# Altium footprint library default.PcbLib: 40 footprints (part 3 of 3)
Each footprint in its own frame and in the unit in brackets; x right, y up, seen from the top. Pads: shape width x height; smd on the part's side, far side on the other; paste and mask are expansions set on the pad; w line width, h text height; cw(c..) or ccw(c..) is an arc to the next point about the centre after c.
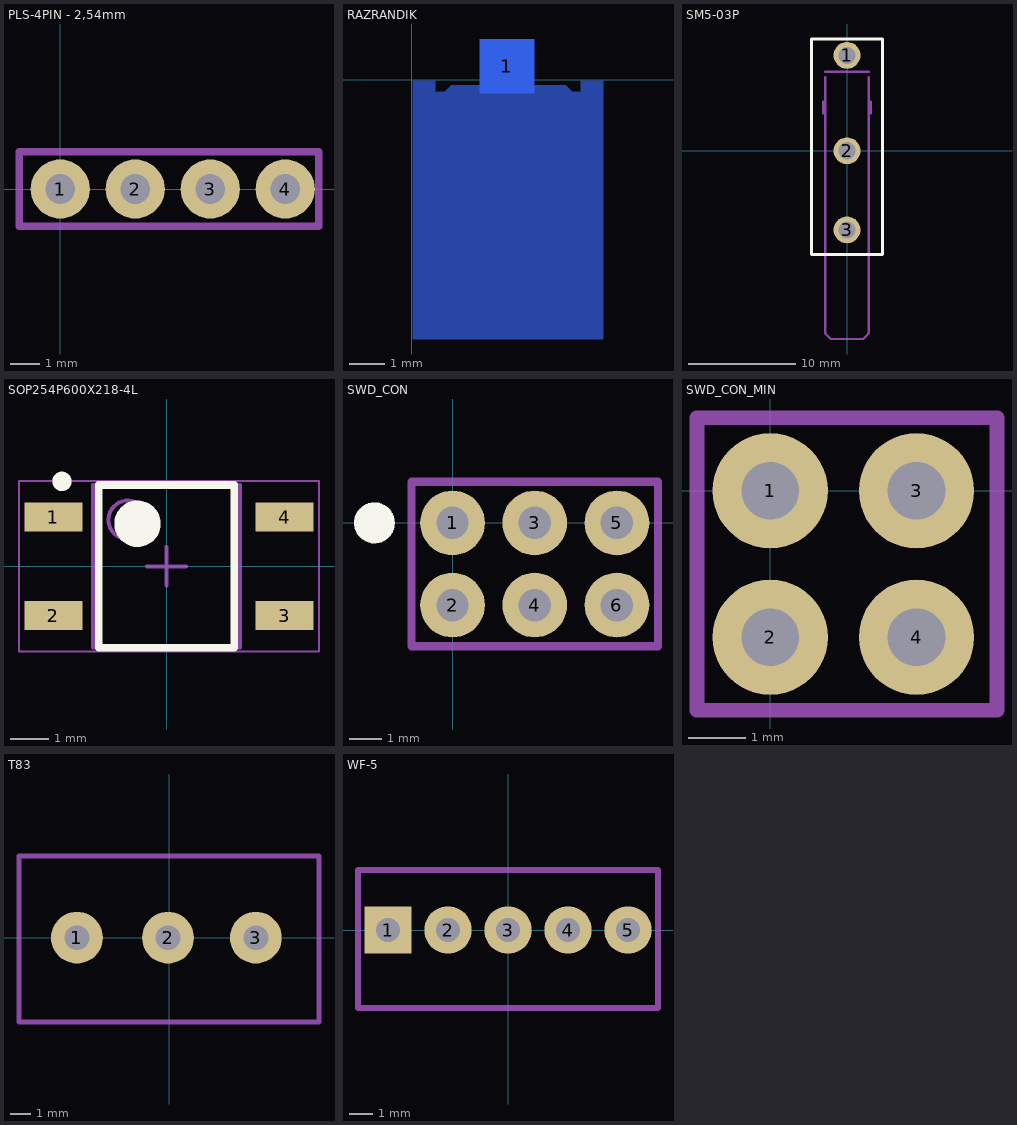
[diagram p2: the footprints below, top view; thin cyan lines are the x and y axes]

## PLS-4PIN - 2,54mm [mm]
pads (4):
  round 2 hole 1: 1(0,0) 2(2.54,0) 3(5.08,0) 4(7.62,0)
Top Courtyard:
  lines w0.254: -1.397,-1.27 8.763,-1.27 8.763,1.27 -1.397,1.27 -1.397,-1.27
3D body "21690.stp": height 7.2, standoff -2.8, extent -1.27,-1.27 8.89,1.27

## RAZRANDIK [mil]
pads (1):
  rect 60x60 smd far side: 1(105,15)
Bottom Layer:
  region: 61.19,-112.1 41.19,-132.1 41.19,-242.1 61.19,-222.1 81.19,-242.1 106.19,-217.1 131.19,-242.1 151.19,-222.1 171.19,-242.1 171.19,-132.1 151.19,-112.1
  region: 16.19,-285.76 211.19,-285.76 211.19,-0.76 186.19,-0.76 186.19,-250.76 26.19,-250.76 26.19,-0.76 1.19,-0.76 1.19,-285.76
  pour cut-out: 196.19,-253.71 196.19,-18.21 191.19,-13.21 21.19,-13.21 16.19,-18.21 16.19,-253.71
  region: 98.75,-112.1 114.5,-112.1 114.5,-104.22 169.62,-104.22 177.5,-96.35 169.62,-88.48 161.75,-88.48 161.75,-76.67 169.62,-76.67 177.5,-68.79 169.62,-60.92 67.26,-60.92 67.26,-49.11 169.62,-49.11 177.5,-41.23 169.62,-33.36 161.75,-33.36 161.75,-21.55 169.62,-21.55 177.5,-13.67 169.62,-5.8 43.64,-5.8 35.76,-13.67 43.64,-21.55 146,-21.55 146,-33.36 43.64,-33.36 35.76,-41.23 43.64,-49.11 51.51,-49.11 51.51,-60.92 43.64,-60.92 35.76,-68.79 43.64,-76.67 146,-76.67 146,-88.48 43.64,-88.48 35.76,-96.35 43.64,-104.22 98.75,-104.22
Top Solder:
  region: 181.19,-262.1 186.19,-257.1 186.19,-237.1 181.19,-232.1 31.19,-232.1 26.19,-237.1 26.19,-257.1 31.19,-262.1
  region: 166.19,-107.1 171.19,-112.1 201.19,-112.1 206.19,-107.1 206.19,-7.1 201.19,-2.1 171.19,-2.1 166.19,-7.1
  region: 6.19,-107.1 11.19,-112.1 41.19,-112.1 46.19,-107.1 46.19,-7.1 41.19,-2.1 11.19,-2.1 6.19,-7.1

## SM5-03P [mm]
pads (3):
  round 2.5 hole 1.6: 1(0,8.89) 2(0,0) 3(0,-7.366)
Top Overlay:
  lines w0.254: -3.302,-9.652 3.302,-9.652 3.302,10.414 -3.302,10.414 -3.302,-9.652
Top Assembly:
  lines w0.2: -2.042,-9.652 -3.302,-9.652 -3.302,10.414 3.302,10.414 3.302,-9.652 2.042,-9.652 ; -2.032,3.471 -2.25,3.471 -2.25,4.596 -2.032,4.596 ; -2.032,6.858 -2.032,-17.018 -1.524,-17.526 1.524,-17.526 2.032,-17.018 2.032,6.858 ; -2.032,7.366 2.032,7.366 ; 2.032,3.471 2.25,3.471 2.25,4.596 2.032,4.596
Top Courtyard:
  lines w0.05: -3.302,-9.652 3.302,-9.652 3.302,10.414 -3.302,10.414 -3.302,-9.652
  lines w0.1: -0.5,0.508 0.5,0.508 ; 0,0.008 0,1.008
Top Designator:
  text ".Designator" at -3.499,2.775 h0.7
3D body: height 0, standoff 0, extent -0.595,8.291 0.6,9.489
3D body: height 0, standoff 0, extent -0.595,-7.965 0.6,-6.767
3D body: height 0, standoff 0, extent -0.595,-0.599 0.6,0.599
3D body: height 11, standoff 10.1, extent -2.032,-17.526 2.032,6.858
3D body: height 10, standoff 0.25, extent -3.3,-9.642 3.3,10.408
3D body: height 10.1, standoff 10, extent -2.25,3.471 2.25,4.596
3D body: height 10.1, standoff 10, extent -2.042,6.308 2.032,7.366

## SOP254P600X218-4L [mm] "SOP, 4-Leads, Body 4,00x3,75mm, Pitch 2,54mm, IPC High Density"
height 2.18
pads (4):
  rect 1.5x0.75 smd: 1(-2.921,1.27) 2(-2.921,-1.27) 3(3.048,-1.27) 4(3.048,1.27)
Top Overlay:
  circle w0.6: c-0.75,1.1 r0.3
  circle w0.25: c-2.7,2.195 r0.125
  lines w0.2: -1.75,-2.1 1.75,-2.1 1.75,2.1 -1.75,2.1 -1.75,-2.1
Mechanical 13:
  circle w0.1: c-1,1.2 r0.5
  lines w0.1: -1.9,-2.1 1.9,-2.1 1.9,2.1 -1.9,2.1 -1.9,-2.1
Mechanical 15:
  lines w0.05: -3.81,-2.2 -3.81,2.2 3.937,2.2 3.937,-2.2 -3.81,-2.2
  lines w0.1: -0.5,0 0.5,0 ; 0,-0.5 0,0.5
3D body "20584.stp": height 2, standoff -0.1, extent -3.429,-1.995 3.571,1.905

## SWD_CON [mm]
pads (6):
  round 2 hole 1: 1(0,0) 2(0,-2.54) 3(2.54,0) 4(2.54,-2.54) 5(5.08,0) 6(5.08,-2.54)
Top Overlay:
  circle w0.254: c-2.413,0 r0.508
  rectangle: -2.845,-0.406 -2.007,0.406
Top Courtyard:
  lines w0.254: -1.27,-3.81 -1.27,1.27 6.35,1.27 6.35,-3.81 -1.27,-3.81
3D body "User Library-PLS-2.STEP": height 8.54, standoff -3, extent 3.81,-3.81 6.35,1.27
3D body "User Library-PLS-2.STEP": height 8.54, standoff -3, extent 1.27,-3.81 3.81,1.27
3D body "User Library-PLS-2.STEP": height 8.54, standoff -3, extent -1.27,-3.81 1.27,1.27

## SWD_CON_MIN [mm]
pads (4):
  round 2 hole 1: 1(0,0) 2(0,-2.54) 3(2.54,0) 4(2.54,-2.54)
Top Courtyard:
  lines w0.254: -1.27,-3.81 -1.27,1.27 3.937,1.27 3.937,-3.81 -1.27,-3.81
3D body "User Library-PLS-2.STEP": height 8.54, standoff -3, extent 1.27,-3.81 3.81,1.27
3D body "User Library-PLS-2.STEP": height 8.54, standoff -3, extent -1.27,-3.81 1.27,1.27

## T83 [mm]
pads (3):
  round 2.5 hole 1.2: 1(-4.445,0) 2(-0.045,0) 3(4.191,0)
Top Assembly:
  lines w0.254: -7.239,-4.064 -7.239,3.937 7.239,3.937 7.239,-4.064 -7.239,-4.064
3D body "User Library-T83.STEP": height 10, standoff -5.1, extent -7.246,-4 7.157,4

## WF-5 [mm]
pads (5):
  rect 2x2 hole 1: 1(-5.08,0)
  round 2 hole 1: 2(-2.54,0) 3(0,0) 4(2.54,0) 5(5.08,0)
Top Courtyard:
  lines w0.254: -6.35,-3.302 -6.35,2.54 6.35,2.54 6.35,-3.302 -6.35,-3.302
3D body "User Library-WF-5.STEP": height 11.64, standoff -2.76, extent -6.35,-3.26 6.35,2.54